# Altium footprint library ImegurasLib.PcbLib: 41 footprints (part 3 of 3)
Each footprint in its own frame and in the unit in brackets; x right, y up, seen from the top. Pads: shape width x height; smd on the part's side, far side on the other; paste and mask are expansions set on the pad; w line width, h text height; cw(c..) or ccw(c..) is an arc to the next point about the centre after c.
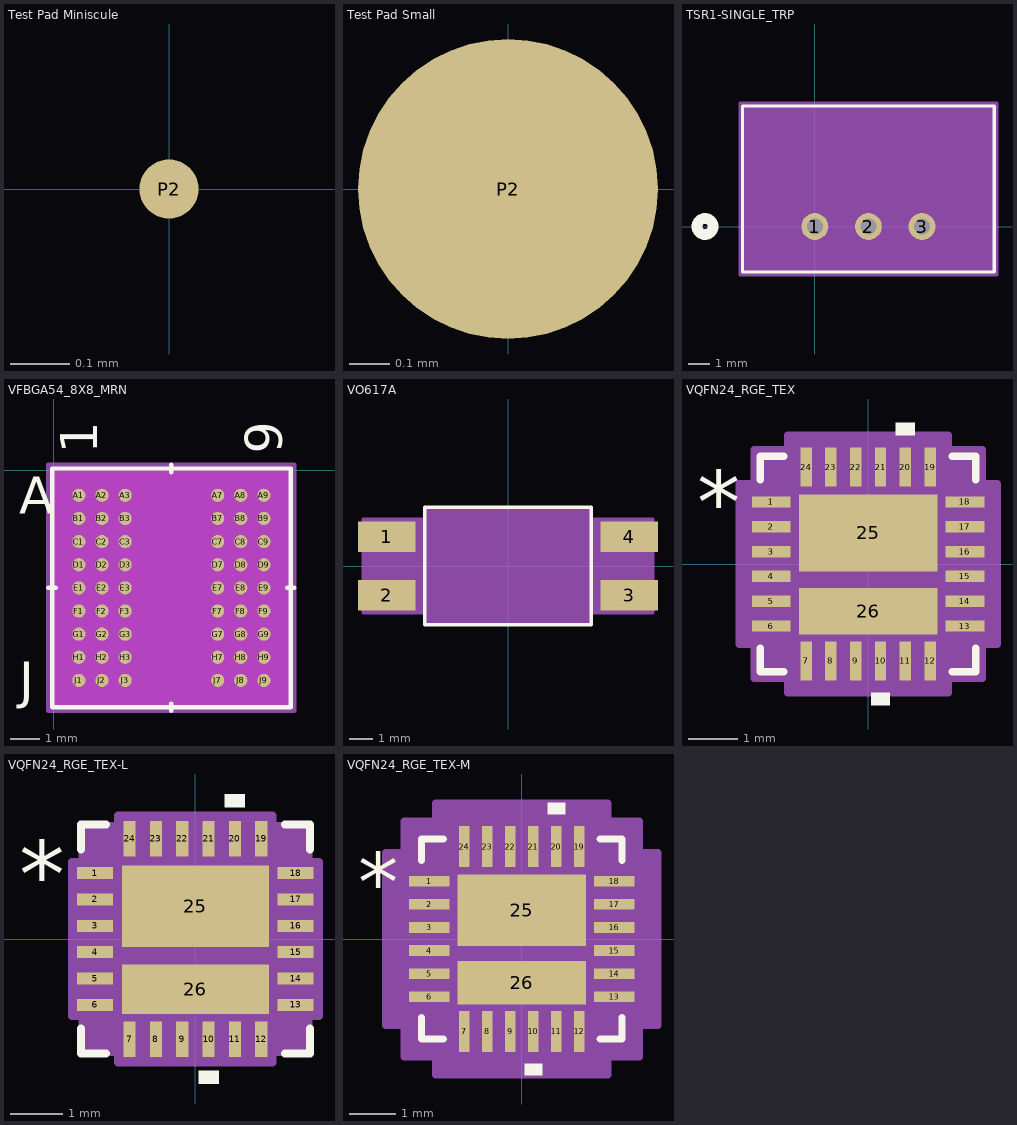
[diagram p2: the footprints below, top view; thin cyan lines are the x and y axes]

## Test Pad Miniscule [mm] "A small test pad for HF applications"
pads (1):
  round 0.1 smd mask+0.051: P2(0,0)

## Test Pad Small [mm] "A small test pad for HF applications"
pads (1):
  round 0.75 smd mask+0.051: P2(0,0)

## TSR1-SINGLE_TRP [mil]
pads (3):
  round 50 / inner round 60 / far side round 50 hole 30 paste-99999 mask+0: 1(0,0) 2(100,0) 3(200,0)
Top Overlay:
  circle w20: c-205,0 r15
  lines w6: -135,-85 -135,225 335,225 335,-85 -135,-85
Bottom Overlay:
  circle w20: c-205,0 r15
Mechanical 13:
  circle w20: c0,75 r15
  lines w1: -130,-80 -130,220 330,220 330,-80 -130,-80
Mechanical 15:
  region: 340,230 -140,230 -140,-90 340,-90
  lines w6: -140,-90 340,-90 340,230 -140,230 -140,-90
3D body "TSR_1-2450.stp": height 398.98, standoff -160.08, extent -130.31,-75 330.31,220.28

## VFBGA54_8X8_MRN [mil]
pads (54):
  round 18 smd paste+0 mask+0: A1(34.02,-34.02) A2(65.51,-34.02) A3(97.01,-34.02) A7(222.99,-34.02) A8(254.49,-34.02) A9(285.98,-34.02) B1(34.02,-65.51) B2(65.51,-65.51) B3(97.01,-65.51) B7(222.99,-65.51) B8(254.49,-65.51) B9(285.98,-65.51) C1(34.02,-97.01) C2(65.51,-97.01) C3(97.01,-97.01) C7(222.99,-97.01) C8(254.49,-97.01) C9(285.98,-97.01) D1(34.02,-128.5) D2(65.51,-128.5) D3(97.01,-128.5) D7(222.99,-128.5) D8(254.49,-128.5) D9(285.98,-128.5) E1(34.02,-160) E2(65.51,-160) E3(97.01,-160) E7(222.99,-160) E8(254.49,-160) E9(285.98,-160) F1(34.02,-191.5) F2(65.51,-191.5) F3(97.01,-191.5) F7(222.99,-191.5) F8(254.49,-191.5) F9(285.98,-191.5) G1(34.02,-222.99) G2(65.51,-222.99) G3(97.01,-222.99) G7(222.99,-222.99) G8(254.49,-222.99) G9(285.98,-222.99) H1(34.02,-254.49) H2(65.51,-254.49) H3(97.01,-254.49) H7(222.99,-254.49) H8(254.49,-254.49) H9(285.98,-254.49) J1(34.02,-285.98) J2(65.51,-285.98) J3(97.01,-285.98) J7(222.99,-285.98) J8(254.49,-285.98) J9(285.98,-285.98)
Top Overlay:
  lines w6: -7.5,-160 2.5,-160 ; 160,-327.5 160,-317.5 ; 160,-2.5 160,7.5 ; 317.5,-160 327.5,-160 ; -2.5,-322.5 -2.5,2.5 322.5,2.5 322.5,-322.5 -2.5,-322.5
  text "9" at 310.98,22.5 h50
  text "1" at 59.02,22.5 h50
  text "J" at -47.5,-310.98 h50
  text "A" at -47.5,-59.02 h50
Bottom Overlay:
  text "9" at 260.98,22.5 h50
  text "1" at 9.02,22.5 h50
  text "J" at -22.5,-310.98 h50
  text "A" at -22.5,-59.02 h50
Keep-Out Layer:
  region: 0.77,-319.23 0.77,-0.77 319.23,-0.77 319.23,-319.23
Mechanical 13:
  lines w1: 2.5,-18.25 18.25,-2.5 ; 2.5,-317.5 2.5,-2.5 317.5,-2.5 317.5,-317.5 2.5,-317.5
  text "9" at 310.98,22.5 h50
  text "1" at 59.02,22.5 h50
  text "J" at -47.5,-310.98 h50
  text "A" at -47.5,-59.02 h50
Mechanical 15:
  region: 327.5,-327.5 -7.5,-327.5 -7.5,7.5 327.5,7.5
  lines w6: -7.5,-327.5 327.5,-327.5 327.5,7.5 -7.5,7.5 -7.5,-327.5
3D body "VFBGA54_8X8_MRN.step": height 39.09, standoff 0.02, extent 2.52,-317.48 317.48,-2.52

## ViaSmallest4Layers [mm]

## VO617A [mil]
pads (4):
  rect 98.43x52 smd paste+0 mask+0: 1(-208,50) 2(-208,-50) 3(208,-50) 4(208,50)
Top Overlay:
  lines w6: -143,-101 -143,101 143,101 143,-101 -143,-101
  text "*" at -230.5,97 h0
Mechanical 13:
  lines w0: -12,96 ccw(c0,96) 12,96
  lines w1: -238,-76 -138,-76 -138,-24 -238,-24 -238,-76 ; -238,24 -138,24 -138,76 -238,76 -238,24 ; -138,-96 -138,96 138,96 138,-96 -138,-96 ; 138,-76 238,-76 238,-24 138,-24 138,-76 ; 138,24 238,24 238,76 138,76 138,24
  text "*" at -135.5,43 h0
Mechanical 15:
  region: -142,-80 -248,-80 -248,80 -142,80 -142,100 142,100 142,80 248,80 248,-80 142,-80 142,-100 -142,-100
  lines w6: -248,-80 -142,-80 -142,-100 142,-100 142,-80 248,-80 248,80 142,80 142,100 -142,100 -142,80 -248,80 -248,-80
3D body "SMD-4-OPT8_VO617A_VIS.step": height 163.11, standoff 0, extent -237.99,-95.98 237.99,95.98

## VQFN24_RGE_TEX [mm]
pads (26):
  rect 0.783x0.229 smd paste+0 mask+0: 1(-1.953,1.25) 2(-1.953,0.75) 3(-1.953,0.25) 4(-1.953,-0.25) 5(-1.953,-0.75) 6(-1.953,-1.25) 13(1.953,-1.25) 14(1.953,-0.75) 15(1.953,-0.25) 16(1.953,0.25) 17(1.953,0.75) 18(1.953,1.25)
  rect 0.229x0.783 smd paste+0 mask+0: 7(-1.25,-1.953) 8(-0.75,-1.953) 9(-0.25,-1.953) 10(0.25,-1.953) 11(0.75,-1.953) 12(1.25,-1.953) 19(1.25,1.953) 20(0.75,1.953) 21(0.25,1.953) 22(-0.25,1.953) 23(-0.75,1.953) 24(-1.25,1.953)
  rect 2.794x1.549 smd paste+0 mask+0: 25(0,0.625)
  rect 2.794x0.94 smd paste+0 mask+0: 26(0,-0.95)
Top Overlay:
  region: 0.44,-2.599 0.059,-2.599 0.059,-2.853 0.44,-2.853
  region: 0.941,2.599 0.56,2.599 0.56,2.853 0.941,2.853
  lines w0.152: -2.172,-1.697 -2.172,-2.172 -1.697,-2.172 ; -2.172,1.697 -2.172,2.172 -1.697,2.172 ; 1.697,-2.172 2.172,-2.172 2.172,-1.697 ; 1.697,2.172 2.172,2.172 2.172,1.697
  text "*" at -3.45,0.615 h1.27
Mechanical 13:
  lines w0.025: -2.045,0.775 -0.775,2.045 ; -2.045,-2.045 2.045,-2.045 2.045,2.045 -2.045,2.045 -2.045,-2.045 ; -2.045,-1.39 -2.045,-1.11 -2.045,-1.39 ; -2.045,-0.89 -2.045,-0.61 -2.045,-0.89 ; -2.045,-0.39 -2.045,-0.11 -2.045,-0.39 ; -2.045,0.11 -2.045,0.39 -2.045,0.11 ; -2.045,0.61 -2.045,0.89 -2.045,0.61 ; -2.045,1.11 -2.045,1.39 -2.045,1.11 ; -1.39,-2.045 -1.11,-2.045 -1.39,-2.045 ; -1.39,2.045 -1.11,2.045 -1.39,2.045 ; -0.89,-2.045 -0.61,-2.045 -0.89,-2.045 ; -0.89,2.045 -0.61,2.045 -0.89,2.045 ; -0.39,-2.045 -0.11,-2.045 -0.39,-2.045 ; -0.39,2.045 -0.11,2.045 -0.39,2.045 ; 0.11,-2.045 0.39,-2.045 0.11,-2.045 ; 0.11,2.045 0.39,2.045 0.11,2.045 ; 0.61,-2.045 0.89,-2.045 0.61,-2.045 ; 0.61,2.045 0.89,2.045 0.61,2.045 ; 1.11,-2.045 1.39,-2.045 1.11,-2.045 ; 1.11,2.045 1.39,2.045 1.11,2.045 ; 2.045,-1.39 2.045,-1.11 2.045,-1.39 ; 2.045,-0.89 2.045,-0.61 2.045,-0.89 ; 2.045,-0.39 2.045,-0.11 2.045,-0.39 ; 2.045,0.11 2.045,0.39 2.045,0.11 ; 2.045,0.61 2.045,0.89 2.045,0.61 ; 2.045,1.11 2.045,1.39 2.045,1.11
  text "*" at -1.092,0.615 h1.27
Mechanical 15:
  region: -1.619,-2.299 -2.299,-2.299 -2.299,-1.619 -2.599,-1.619 -2.599,1.619 -2.299,1.619 -2.299,2.299 -1.619,2.299 -1.619,2.599 1.619,2.599 1.619,2.299 2.299,2.299 2.299,1.619 2.599,1.619 2.599,-1.619 2.299,-1.619 2.299,-2.299 1.619,-2.299 1.619,-2.599 -1.619,-2.599
  lines w0.152: -2.599,-1.619 -2.299,-1.619 -2.299,-2.299 -1.619,-2.299 -1.619,-2.599 1.619,-2.599 1.619,-2.299 2.299,-2.299 2.299,-1.619 2.599,-1.619 2.599,1.619 2.299,1.619 2.299,2.299 1.619,2.299 1.619,2.599 -1.619,2.599 -1.619,2.299 -2.299,2.299 -2.299,1.619 -2.599,1.619 -2.599,-1.619
3D body "VQFN24_RGE_TEX.step": height 0.99, standoff 0, extent -2.045,-2.045 2.045,2.045

## VQFN24_RGE_TEX-L [mm]
pads (26):
  rect 0.683x0.229 smd paste+0 mask+0: 1(-1.903,1.25) 2(-1.903,0.75) 3(-1.903,0.25) 4(-1.903,-0.25) 5(-1.903,-0.75) 6(-1.903,-1.25) 13(1.903,-1.25) 14(1.903,-0.75) 15(1.903,-0.25) 16(1.903,0.25) 17(1.903,0.75) 18(1.903,1.25)
  rect 0.229x0.683 smd paste+0 mask+0: 7(-1.25,-1.903) 8(-0.75,-1.903) 9(-0.25,-1.903) 10(0.25,-1.903) 11(0.75,-1.903) 12(1.25,-1.903) 19(1.25,1.903) 20(0.75,1.903) 21(0.25,1.903) 22(-0.25,1.903) 23(-0.75,1.903) 24(-1.25,1.903)
  rect 2.794x1.549 smd paste+0 mask+0: 25(0,0.625)
  rect 2.794x0.94 smd paste+0 mask+0: 26(0,-0.95)
Top Overlay:
  region: 0.941,2.499 0.56,2.499 0.56,2.753 0.941,2.753
  region: 0.44,-2.499 0.059,-2.499 0.059,-2.753 0.44,-2.753
  lines w0.152: -2.172,-1.697 -2.172,-2.172 -1.697,-2.172 ; -2.172,1.697 -2.172,2.172 -1.697,2.172 ; 1.697,-2.172 2.172,-2.172 2.172,-1.697 ; 1.697,2.172 2.172,2.172 2.172,1.697
  text "*" at -3.35,0.615 h1.27
Mechanical 13:
  lines w0.025: -2.045,0.775 -0.775,2.045 ; -2.045,-2.045 -2.045,2.045 2.045,2.045 2.045,-2.045 -2.045,-2.045 ; -2.045,-1.39 -2.045,-1.11 -2.045,-1.39 ; -2.045,-0.89 -2.045,-0.61 -2.045,-0.89 ; -2.045,-0.39 -2.045,-0.11 -2.045,-0.39 ; -2.045,0.11 -2.045,0.39 -2.045,0.11 ; -2.045,0.61 -2.045,0.89 -2.045,0.61 ; -2.045,1.11 -2.045,1.39 -2.045,1.11 ; -1.39,-2.045 -1.11,-2.045 -1.39,-2.045 ; -1.39,2.045 -1.11,2.045 -1.39,2.045 ; -0.89,-2.045 -0.61,-2.045 -0.89,-2.045 ; -0.89,2.045 -0.61,2.045 -0.89,2.045 ; -0.39,-2.045 -0.11,-2.045 -0.39,-2.045 ; -0.39,2.045 -0.11,2.045 -0.39,2.045 ; 0.11,-2.045 0.39,-2.045 0.11,-2.045 ; 0.11,2.045 0.39,2.045 0.11,2.045 ; 0.61,-2.045 0.89,-2.045 0.61,-2.045 ; 0.61,2.045 0.89,2.045 0.61,2.045 ; 1.11,-2.045 1.39,-2.045 1.11,-2.045 ; 1.11,2.045 1.39,2.045 1.11,2.045 ; 2.045,-1.39 2.045,-1.11 2.045,-1.39 ; 2.045,-0.89 2.045,-0.61 2.045,-0.89 ; 2.045,-0.39 2.045,-0.11 2.045,-0.39 ; 2.045,0.11 2.045,0.39 2.045,0.11 ; 2.045,0.61 2.045,0.89 2.045,0.61 ; 2.045,1.11 2.045,1.39 2.045,1.11
  text "*" at -1.092,0.615 h1.27
Mechanical 15:
  region: -1.466,-2.146 -2.146,-2.146 -2.146,-1.466 -2.346,-1.466 -2.346,1.466 -2.146,1.466 -2.146,2.146 -1.466,2.146 -1.466,2.346 1.466,2.346 1.466,2.146 2.146,2.146 2.146,1.466 2.346,1.466 2.346,-1.466 2.146,-1.466 2.146,-2.146 1.466,-2.146 1.466,-2.346 -1.466,-2.346
  lines w0.152: -2.346,-1.466 -2.346,1.466 -2.146,1.466 -2.146,2.146 -1.466,2.146 -1.466,2.346 1.466,2.346 1.466,2.146 2.146,2.146 2.146,1.466 2.346,1.466 2.346,-1.466 2.146,-1.466 2.146,-2.146 1.466,-2.146 1.466,-2.346 -1.466,-2.346 -1.466,-2.146 -2.146,-2.146 -2.146,-1.466 -2.346,-1.466
3D body "VQFN24_RGE_TEX.step": height 0.99, standoff 0, extent -2.045,-2.045 2.045,2.045

## VQFN24_RGE_TEX-M [mm]
pads (26):
  rect 0.883x0.229 smd paste+0 mask+0: 1(-2.003,1.25) 2(-2.003,0.75) 3(-2.003,0.25) 4(-2.003,-0.25) 5(-2.003,-0.75) 6(-2.003,-1.25) 13(2.003,-1.25) 14(2.003,-0.75) 15(2.003,-0.25) 16(2.003,0.25) 17(2.003,0.75) 18(2.003,1.25)
  rect 0.229x0.883 smd paste+0 mask+0: 7(-1.25,-2.003) 8(-0.75,-2.003) 9(-0.25,-2.003) 10(0.25,-2.003) 11(0.75,-2.003) 12(1.25,-2.003) 19(1.25,2.003) 20(0.75,2.003) 21(0.25,2.003) 22(-0.25,2.003) 23(-0.75,2.003) 24(-1.25,2.003)
  rect 2.794x1.549 smd paste+0 mask+0: 25(0,0.625)
  rect 2.794x0.94 smd paste+0 mask+0: 26(0,-0.95)
Top Overlay:
  region: 0.44,-2.699 0.059,-2.699 0.059,-2.953 0.44,-2.953
  region: 0.941,2.699 0.56,2.699 0.56,2.953 0.941,2.953
  lines w0.152: -2.172,-1.697 -2.172,-2.172 -1.697,-2.172 ; -2.172,1.697 -2.172,2.172 -1.697,2.172 ; 1.697,-2.172 2.172,-2.172 2.172,-1.697 ; 1.697,2.172 2.172,2.172 2.172,1.697
  text "*" at -3.55,0.615 h1.27
Mechanical 13:
  lines w0.025: -2.045,0.775 -0.775,2.045 ; -2.045,-2.045 2.045,-2.045 2.045,2.045 -2.045,2.045 -2.045,-2.045 ; -2.045,-1.39 -2.045,-1.11 -2.045,-1.39 ; -2.045,-0.89 -2.045,-0.61 -2.045,-0.89 ; -2.045,-0.39 -2.045,-0.11 -2.045,-0.39 ; -2.045,0.11 -2.045,0.39 -2.045,0.11 ; -2.045,0.61 -2.045,0.89 -2.045,0.61 ; -2.045,1.11 -2.045,1.39 -2.045,1.11 ; -1.39,-2.045 -1.11,-2.045 -1.39,-2.045 ; -1.39,2.045 -1.11,2.045 -1.39,2.045 ; -0.89,-2.045 -0.61,-2.045 -0.89,-2.045 ; -0.89,2.045 -0.61,2.045 -0.89,2.045 ; -0.39,-2.045 -0.11,-2.045 -0.39,-2.045 ; -0.39,2.045 -0.11,2.045 -0.39,2.045 ; 0.11,-2.045 0.39,-2.045 0.11,-2.045 ; 0.11,2.045 0.39,2.045 0.11,2.045 ; 0.61,-2.045 0.89,-2.045 0.61,-2.045 ; 0.61,2.045 0.89,2.045 0.61,2.045 ; 1.11,-2.045 1.39,-2.045 1.11,-2.045 ; 1.11,2.045 1.39,2.045 1.11,2.045 ; 2.045,-1.39 2.045,-1.11 2.045,-1.39 ; 2.045,-0.89 2.045,-0.61 2.045,-0.89 ; 2.045,-0.39 2.045,-0.11 2.045,-0.39 ; 2.045,0.11 2.045,0.39 2.045,0.11 ; 2.045,0.61 2.045,0.89 2.045,0.61 ; 2.045,1.11 2.045,1.39 2.045,1.11
  text "*" at -1.092,0.615 h1.27
Mechanical 15:
  region: -1.873,-2.553 -2.553,-2.553 -2.553,-1.873 -2.953,-1.873 -2.953,1.873 -2.553,1.873 -2.553,2.553 -1.873,2.553 -1.873,2.953 1.873,2.953 1.873,2.553 2.553,2.553 2.553,1.873 2.953,1.873 2.953,-1.873 2.553,-1.873 2.553,-2.553 1.873,-2.553 1.873,-2.953 -1.873,-2.953
  lines w0.152: -2.953,-1.873 -2.553,-1.873 -2.553,-2.553 -1.873,-2.553 -1.873,-2.953 1.873,-2.953 1.873,-2.553 2.553,-2.553 2.553,-1.873 2.953,-1.873 2.953,1.873 2.553,1.873 2.553,2.553 1.873,2.553 1.873,2.953 -1.873,2.953 -1.873,2.553 -2.553,2.553 -2.553,1.873 -2.953,1.873 -2.953,-1.873
3D body "VQFN24_RGE_TEX.step": height 0.99, standoff 0, extent -2.045,-2.045 2.045,2.045